# Altium footprint library switch.PcbLib: 1 footprints
Each footprint in its own frame and in the unit in brackets; x right, y up, seen from the top. Pads: shape width x height; smd on the part's side, far side on the other; paste and mask are expansions set on the pad; w line width, h text height; cw(c..) or ccw(c..) is an arc to the next point about the centre after c.
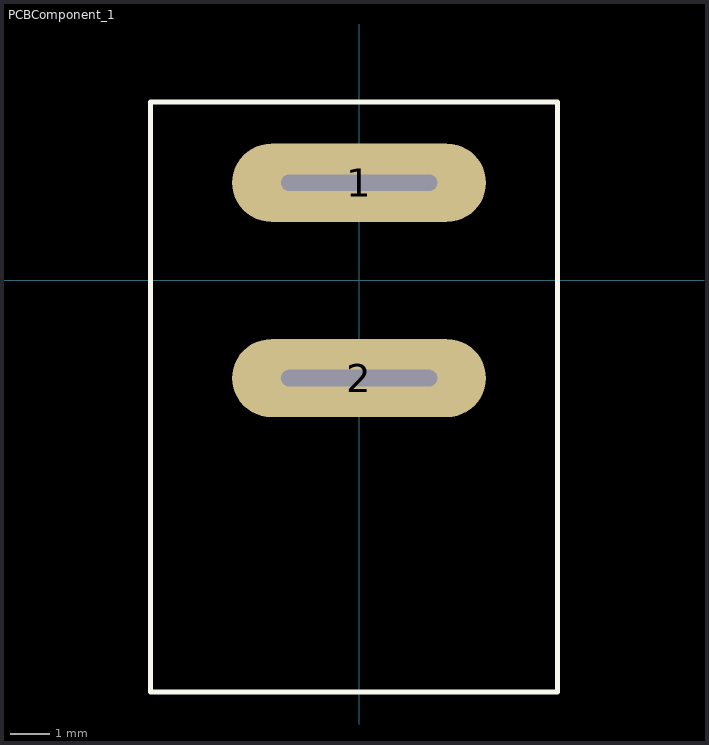
[diagram p0: the footprint, top view; thin cyan lines are the x and y axes]

## PCBComponent_1 [mm]
pads (2):
  oval 6.5x2 hole 0.42 slot 4 at 0 deg: 1(0,2.5) 2(0,-2.5)
Top Overlay:
  lines w0.127: 5.08,4.559 5.08,-10.541 -5.34,-10.541 -5.34,4.572 5.08,4.572
3D body: height 1.85, standoff -16.05, extent -3.81,-0.508 -3.81,-0.508
3D body "INTERRUPTOR BASCULANTE.STEP": height 13.85, standoff -4.05, extent -5.337,-10.274 5.083,4.826